# Altium schematic symbol library Multiplexer.SchLib: 3 symbols
Pins are listed as number, name and electrical type; pins without a type are passive.

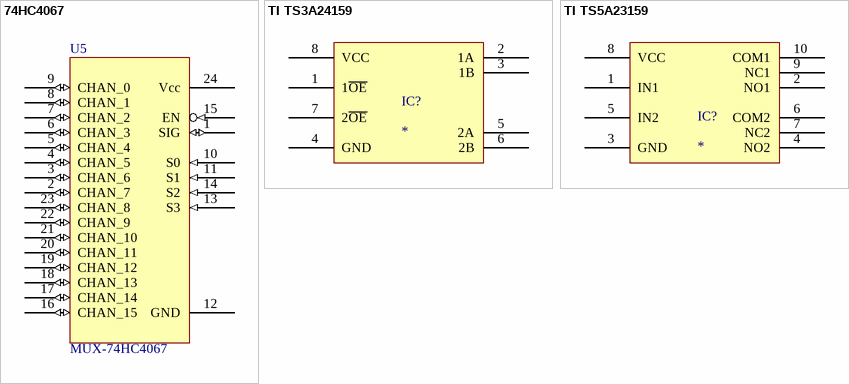
[diagram p0: symbols 74HC4067 to TI TS5A23159]

## 74HC4067
designator U5, comment MUX-74HC4067
16:1 Bidirectional Analog/Digital Mux; Supplier 1: Digi-Key; Supplier Part Number 1: MC74HC4067ADWR2GOSCT-ND
footprint TI SSOP-24 DB (SSOP, 24-Leads, Body 8.20x5.30mm, Pitch 0.65mm, IPC Medium Density)
pins: 1 SIG (io), 2 CHAN_7 (io), 3 CHAN_6 (io), 4 CHAN_5 (io), 5 CHAN_4 (io), 6 CHAN_3 (io), 7 CHAN_2 (io), 8 CHAN_1 (io), 9 CHAN_0 (io), 10 S0 (in), 11 S1 (in), 12 GND, 13 S3 (in), 14 S2 (in), 15 EN (in), 16 CHAN_15 (io), 17 CHAN_14 (io), 18 CHAN_13 (io), 19 CHAN_12 (io), 20 CHAN_11 (io), 21 CHAN_10 (io), 22 CHAN_9 (io), 23 CHAN_8 (io), 24 Vcc

## TI TS3A24159
designator IC?
pins: 1 1~{OE}, 2 1A, 3 1B, 4 GND, 5 2A, 6 2B, 7 2~{OE}, 8 VCC

## TI TS5A23159
designator IC?
pins: 1 IN1, 2 NO1, 3 GND, 4 NO2, 5 IN2, 6 COM2, 7 NC2, 8 VCC, 9 NC1, 10 COM1